# EAGLE library part LMD18200 (library mylib)
LMD18200 motor control chip with current sense 3A
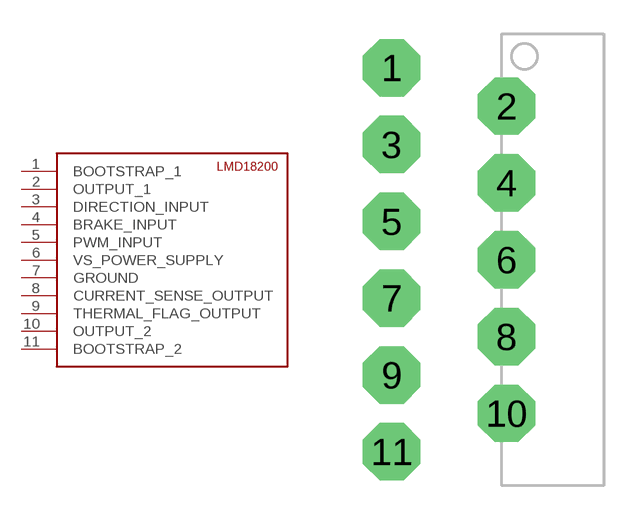
[diagram p2: symbol with the pads of TO-220-11; footprint TO-220-11]

Designator prefix -

## LMD18200  [TO-220-11]
1  BOOTSTRAP_1
2  OUTPUT_1
3  DIRECTION_INPUT
4  BRAKE_INPUT
5  PWM_INPUT
6  VS_POWER_SUPPLY
7  GROUND
8  CURRENT_SENSE_OUTPUT
9  THERMAL_FLAG_OUTPUT
10  OUTPUT_2
11  BOOTSTRAP_2

## Footprint TO-220-11 (pad centres in mm)
drill 1 pad 2.54 octagon: 1 -4.88,8.5; 2 0.2,6.8; 3 -4.88,5.1; 4 0.2,3.4; 5 -4.88,1.7; 6 0.2,0; 7 -4.88,-1.7; 8 0.2,-3.4; 9 -4.88,-5.1; 10 0.2,-6.8; 11 -4.88,-8.5